# Altium footprint library CAN_pcb_lib.PcbLib: 5 footprints
Each footprint in its own frame and in the unit in brackets; x right, y up, seen from the top. Pads: shape width x height; smd on the part's side, far side on the other; paste and mask are expansions set on the pad; w line width, h text height; cw(c..) or ccw(c..) is an arc to the next point about the centre after c.
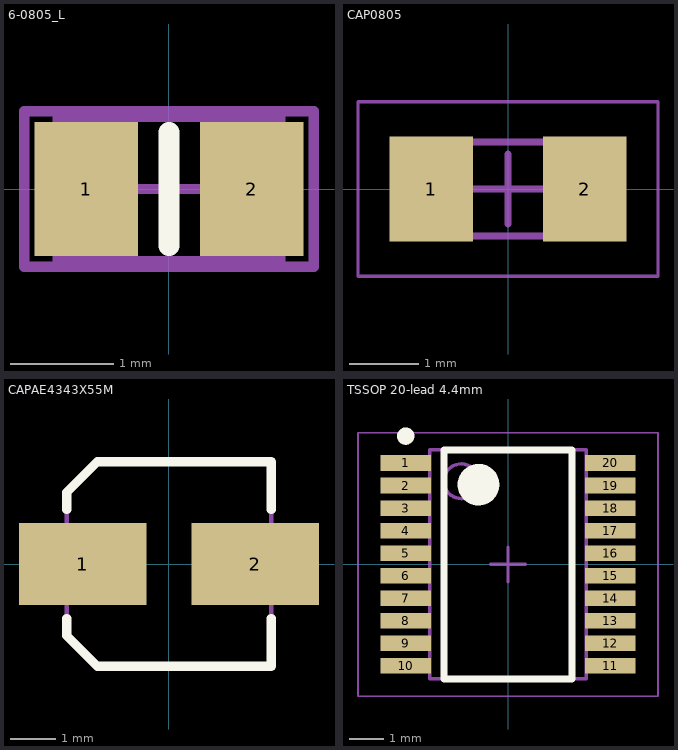
[diagram p0: the footprints below, top view; thin cyan lines are the x and y axes]

## 6-0805_L [mm] "Chip Resistor, Body 2.0x1.2mm, IPC High Density"
height 0.7
pads (2):
  rect 1x1.3 smd: 1(-0.8,0) 2(0.8,0)
Top Overlay:
  lines w0.2: 0,-0.55 0,0.55
Mechanical 13:
  lines w0.1: -1.075,-0.7 -1.075,0.7 1.075,0.7 1.075,-0.7 -1.075,-0.7
Mechanical 15:
  lines w0.1: -0.5,0 0.5,0 ; 0,-0.5 0,0.5 ; -1.4,-0.75 -1.4,0.75 1.4,0.75 1.4,-0.75 -1.4,-0.75
3D body: height 0.7, standoff 0, extent -1.075,-0.7 1.075,0.7

## CAP0805 [mm] "Chip Capacitor, 2-Leads, Body 2,00x1,25mm, IPC Low Density"
height 1.45
pads (2):
  rect 1.2x1.5 smd: 1(-1.1,0) 2(1.1,0)
Mechanical 13:
  lines w0.1: -1.075,-0.675 -1.075,0.675 1.075,0.675 1.075,-0.675 -1.075,-0.675
Mechanical 15:
  lines w0.05: -2.15,-1.25 -2.15,1.25 2.15,1.25 2.15,-1.25 -2.15,-1.25
  lines w0.1: -0.5,0 0.5,0 ; 0,-0.5 0,0.5
3D body: height 1.45, standoff 0, extent -0.575,-0.675 0.575,0.675
3D body: height 1.45, standoff 0, extent -1.075,-0.675 -0.575,0.675
3D body: height 1.45, standoff 0, extent 0.575,-0.675 1.075,0.675

## CAPAE4343X55M [mm] "Aluminum Electrolytic Capacitor, Body 4,00x4,30x5,50mm, IPC Low Density"
height 5.5
pads (2):
  rect 2.8x1.8 smd: 1(-1.9,0) 2(1.9,0)
Top Overlay:
  lines w0.2: -2.25,-1.2 -2.25,-1.575 -1.575,-2.25 2.25,-2.25 2.25,-1.2 ; -2.25,1.2 -2.25,1.575 -1.575,2.25 2.25,2.25 2.25,1.2
Mechanical 13:
  lines w0.1: -2.25,-1.575 -1.575,-2.25 2.25,-2.25 2.25,2.25 -1.575,2.25 -2.25,1.575 -2.25,-1.575
3D body "CAPAE4343X55M.step": height 5.5, standoff 0, extent -2.25,-2.25 2.25,2.25

## PCBComponent_1 [mm]

## TSSOP 20-lead 4.4mm [mm] "TSOP, 20-Leads, Body 6.50x4.40mm, Pitch 0.65mm, IPC Low Density"
height 1.2
pads (20):
  rect 1.45x0.45 smd: 1(-2.95,2.925) 2(-2.95,2.275) 3(-2.95,1.625) 4(-2.95,0.975) 5(-2.95,0.325) 6(-2.95,-0.325) 7(-2.95,-0.975) 8(-2.95,-1.625) 9(-2.95,-2.275) 10(-2.95,-2.925) 11(2.95,-2.925) 12(2.95,-2.275) 13(2.95,-1.625) 14(2.95,-0.975) 15(2.95,-0.325) 16(2.95,0.325) 17(2.95,0.975) 18(2.95,1.625) 19(2.95,2.275) 20(2.95,2.925)
Top Overlay:
  circle w0.6: c-0.85,2.3 r0.3
  circle w0.25: c-2.95,3.7 r0.125
  lines w0.2: -1.85,-3.3 1.85,-3.3 1.85,3.3 -1.85,3.3 -1.85,-3.3
Mechanical 13:
  circle w0.1: c-1.35,2.4 r0.5
  lines w0.1: -2.25,-3.3 2.25,-3.3 2.25,3.3 -2.25,3.3 -2.25,-3.3
Mechanical 15:
  lines w0.05: -4.325,-3.8 4.325,-3.8 4.325,3.8 -4.325,3.8 -4.325,-3.8
  lines w0.1: -0.5,0 0.5,0 ; 0,-0.5 0,0.5
3D body "TSSOP 20-lead 4.4mm.step": height 1.2, standoff 0, extent -3.2,-3.3 3.2,3.3